# EAGLE library part EA_LED94X67_MONO (library ea_v66)
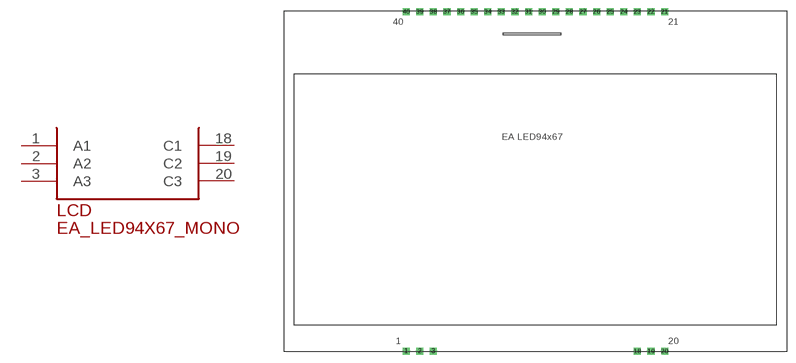
[diagram p11: symbol with the pads of EA_LED94X67; footprint EA_LED94X67]

Designator prefix LCD

## EA_LED94X67_MONO  [EA_LED94X67]
1  A1  pas
2  A2  pas
3  A3  pas
18  C1  pas
19  C2  pas
20  C3  pas

## Footprint EA_LED94X67 (pad centres in mm)
drill 0.813 square: 1 0,0; 2 2.54,0; 3 5.08,0; 18 43.18,0; 19 45.72,0; 20 48.26,0; 21 48.26,63.5; 22 45.72,63.5; 23 43.18,63.5; 24 40.64,63.5; 25 38.1,63.5; 26 35.56,63.5; 27 33.02,63.5; 28 30.48,63.5; 29 27.94,63.5; 30 25.4,63.5; 31 22.86,63.5; 32 20.32,63.5; 33 17.78,63.5; 34 15.24,63.5; 35 12.7,63.5; 36 10.16,63.5; 37 7.62,63.5; 38 5.08,63.5; 39 2.54,63.5; 40 0,63.5